# Altium footprint library BAT54JFILM.PcbLib: 3 footprints
Each footprint in its own frame and in the unit in brackets; x right, y up, seen from the top. Pads: shape width x height; smd on the part's side, far side on the other; paste and mask are expansions set on the pad; w line width, h text height; cw(c..) or ccw(c..) is an arc to the next point about the centre after c.
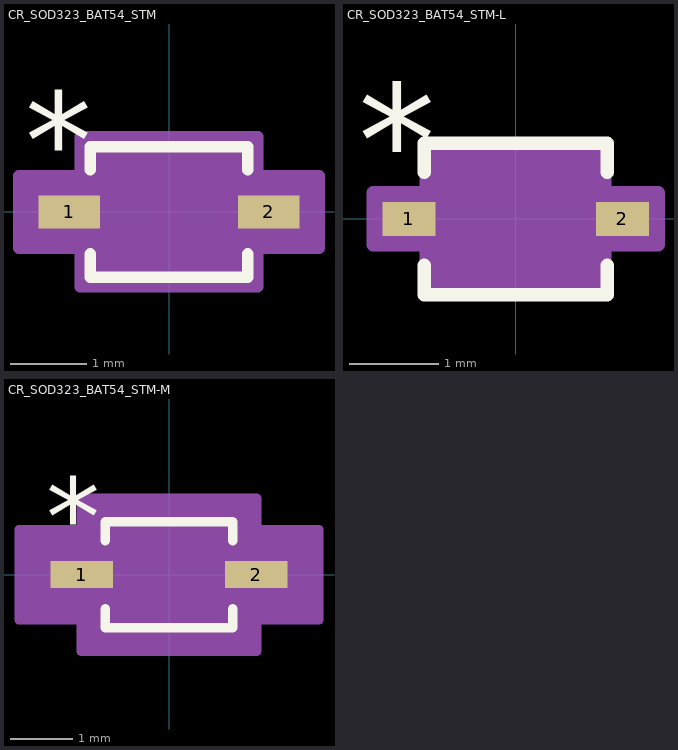
[diagram p0: the footprints below, top view; thin cyan lines are the x and y axes]

## CR_SOD323_BAT54_STM [mil]
pads (2):
  rect 31.5x17 smd paste+0 mask+0: 1(-51.25,0) 2(51.25,0)
Top Overlay:
  lines w6: -40.5,-21.6 -40.5,-33.5 40.5,-33.5 40.5,-21.6 ; -40.5,21.6 -40.5,33.5 40.5,33.5 40.5,21.6
  text "*" at -73.75,12 h50
Mechanical 13:
  lines w0: -12,28.5 ccw(c0,28.5) 12,28.5
  lines w1: -53,-8.5 -53,8.5 -35.5,8.5 -35.5,-8.5 -53,-8.5 ; -35.5,-28.5 35.5,-28.5 35.5,28.5 -35.5,28.5 -35.5,-28.5 ; 35.5,-8.5 35.5,8.5 53,8.5 53,-8.5 35.5,-8.5
  text "*" at -33,-24.5 h50
Mechanical 15:
  region: -45.5,-18.5 -77,-18.5 -77,18.5 -45.5,18.5 -45.5,38.5 45.5,38.5 45.5,18.5 77,18.5 77,-18.5 45.5,-18.5 45.5,-38.5 -45.5,-38.5
  lines w6: -77,-18.5 -77,18.5 -45.5,18.5 -45.5,38.5 45.5,38.5 45.5,18.5 77,18.5 77,-18.5 45.5,-18.5 45.5,-38.5 -45.5,-38.5 -45.5,-18.5 -77,-18.5
3D body "CR_SOD323_BAT54_STM.step": height 46.1, standoff 0, extent -52.99,-28.5 52.99,28.5

## CR_SOD323_BAT54_STM-L [mil]
pads (2):
  rect 23.5x15 smd paste+0 mask+0: 1(-47.25,0) 2(47.25,0)
Top Overlay:
  lines w6: -40.5,-20.6 -40.5,-33.5 40.5,-33.5 40.5,-20.6 ; -40.5,20.6 -40.5,33.5 40.5,33.5 40.5,20.6
  text "*" at -69.75,10 h50
Mechanical 13:
  lines w0: -12,28.5 ccw(c0,28.5) 12,28.5
  lines w1: -53,-8.5 -53,8.5 -35.5,8.5 -35.5,-8.5 -53,-8.5 ; -35.5,-28.5 35.5,-28.5 35.5,28.5 -35.5,28.5 -35.5,-28.5 ; 35.5,-8.5 35.5,8.5 53,8.5 53,-8.5 35.5,-8.5
  text "*" at -33,-24.5 h50
Mechanical 15:
  region: -39.5,-11.5 -63,-11.5 -63,11.5 -39.5,11.5 -39.5,32.5 39.5,32.5 39.5,11.5 63,11.5 63,-11.5 39.5,-11.5 39.5,-32.5 -39.5,-32.5
  lines w6: -63,-11.5 -63,11.5 -39.5,11.5 -39.5,32.5 39.5,32.5 39.5,11.5 63,11.5 63,-11.5 39.5,-11.5 39.5,-32.5 -39.5,-32.5 -39.5,-11.5 -63,-11.5
3D body "CR_SOD323_BAT54_STM.step": height 46.1, standoff 0, extent -52.99,-28.5 52.99,28.5

## CR_SOD323_BAT54_STM-M [mil]
pads (2):
  rect 39.5x17 smd paste+0 mask+0: 1(-55.25,0) 2(55.25,0)
Top Overlay:
  lines w6: -40.5,-21.6 -40.5,-33.5 40.5,-33.5 40.5,-21.6 ; -40.5,21.6 -40.5,33.5 40.5,33.5 40.5,21.6
  text "*" at -77.75,12 h50
Mechanical 13:
  lines w0: -12,28.5 ccw(c0,28.5) 12,28.5
  lines w1: -53,-8.5 -53,8.5 -35.5,8.5 -35.5,-8.5 -53,-8.5 ; -35.5,-28.5 35.5,-28.5 35.5,28.5 -35.5,28.5 -35.5,-28.5 ; 35.5,-8.5 35.5,8.5 53,8.5 53,-8.5 35.5,-8.5
  text "*" at -33,-24.5 h50
Mechanical 15:
  region: -55.5,-28.5 -95,-28.5 -95,28.5 -55.5,28.5 -55.5,48.5 55.5,48.5 55.5,28.5 95,28.5 95,-28.5 55.5,-28.5 55.5,-48.5 -55.5,-48.5
  lines w6: -95,-28.5 -95,28.5 -55.5,28.5 -55.5,48.5 55.5,48.5 55.5,28.5 95,28.5 95,-28.5 55.5,-28.5 55.5,-48.5 -55.5,-48.5 -55.5,-28.5 -95,-28.5
3D body "CR_SOD323_BAT54_STM.step": height 46.1, standoff 0, extent -52.99,-28.5 52.99,28.5